# Altium integrated library Resistors.IntLib: 4954 symbols (part 17 of 32)
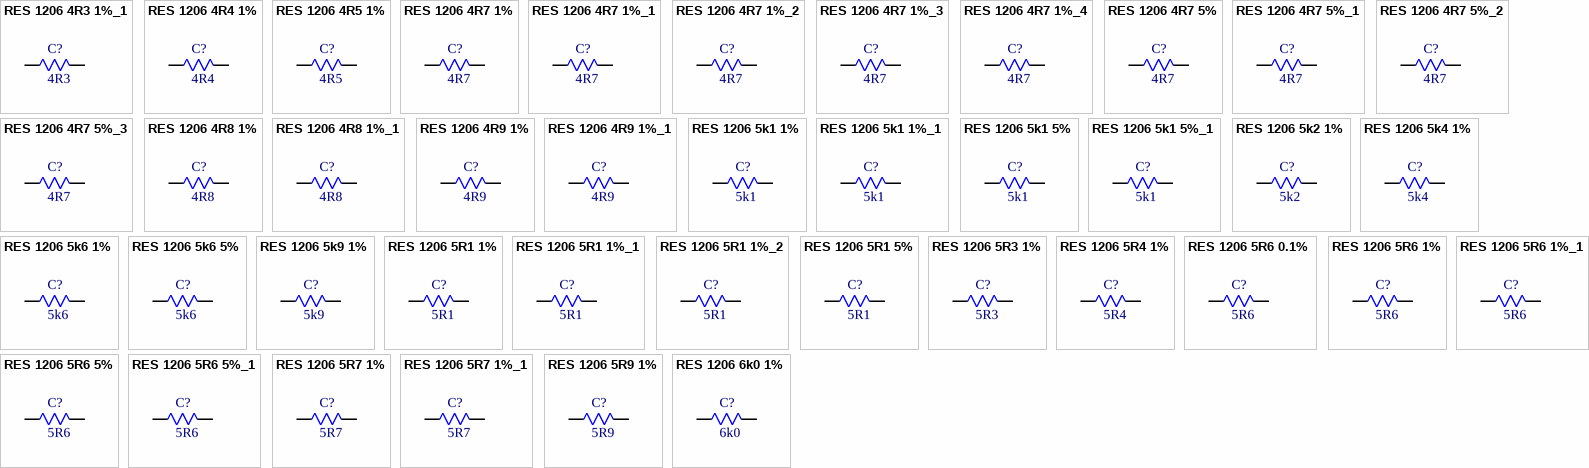
[diagram p139: symbols RES 1206 4R3 1%_1 to RES 1206 6k0 1%]

## RES 1206 5R9 1%
designator C?, comment 5R9
5.9R 1% 250mW 1206 Thick Film Resistor; Manufacturer: FOJAN; Manufacturer Part Number: FRC1206F5R90TS; Voltage Rating: 200V; Supplier: LCSC; Supplier Part Number: C2933737; Resistance: 5R9; Tolerance: 1%; Power: 250mW
footprint RES SMD 1206
pins: 1, 2

## RES 1206 6k0 1%
designator C?, comment 6k0
6.04kR 1% 250mW 1206 Thick Film Resistor; Manufacturer: FOJAN; Manufacturer Part Number: FRC1206F6041TS; Voltage Rating: 200V; Supplier: LCSC; Supplier Part Number: C3000586; Resistance: 6k0; Tolerance: 1%; Power: 250mW
footprint RES SMD 1206
pins: 1, 2

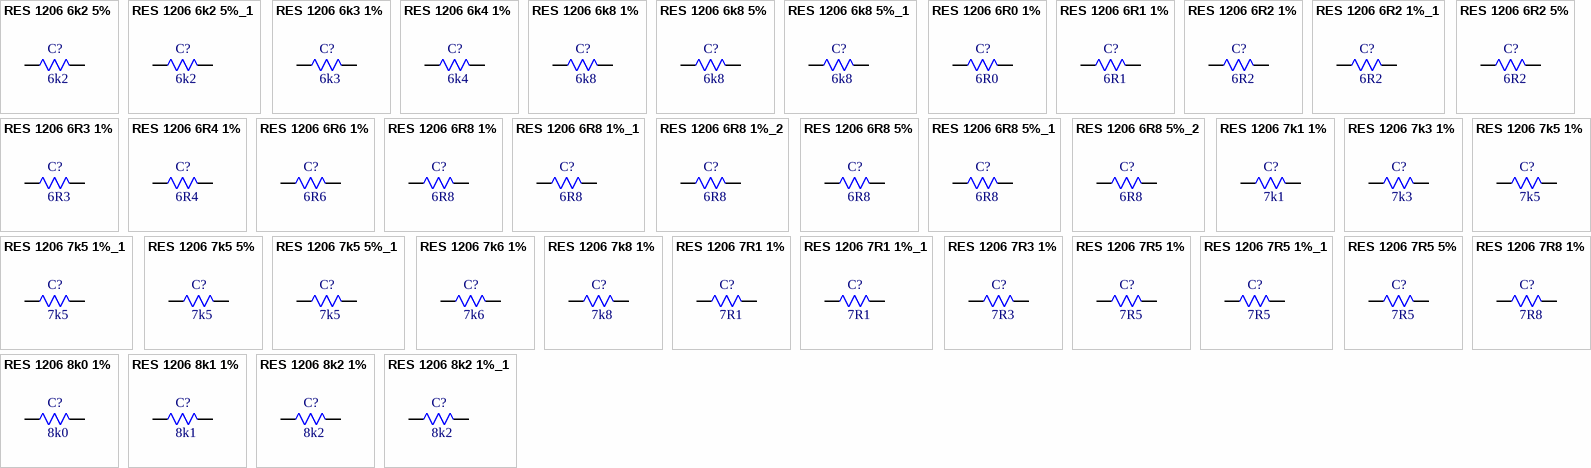
[diagram p64: symbols RES 1206 6k2 5% to RES 1206 8k2 1%_1]

## RES 1206 6k2 5%
designator C?, comment 6k2
250mW 6.2kR 200V Thick Film Resistor 5% 100ppm/â„ƒ 1206 Chip Resistor - Surface Mount RoHS; Manufacturer: FOJAN; Manufacturer Part Number: FRQ1206J622 TS; Supplier: LCSC; Supplier Part Number: C7468660; Resistance: 6k2; Tolerance: 5%; Voltage Rating: 200V; Power: 250mW
footprint RES SMD 1206
pins: 1, 2

## RES 1206 6k2 5%_1
designator C?, comment 6k2
6.2kR 5% 250mW 1206 Thick Film Resistor; Manufacturer: FOJAN; Manufacturer Part Number: FRC1206J622TS; Voltage Rating: 200V; Supplier: LCSC; Supplier Part Number: C2930380; Resistance: 6k2; Tolerance: 5%; Power: 250mW
footprint RES SMD 1206
pins: 1, 2

## RES 1206 6k3 1%
designator C?, comment 6k3
6.34kR 1% 250mW 1206 Thick Film Resistor; Manufacturer: FOJAN; Manufacturer Part Number: FRC1206F6341TS; Voltage Rating: 200V; Supplier: LCSC; Supplier Part Number: C3000749; Resistance: 6k3; Tolerance: 1%; Power: 250mW
footprint RES SMD 1206
pins: 1, 2

## RES 1206 6k4 1%
designator C?, comment 6k4
250mW 6.49kR 200V Thick Film Resistor 100ppm/â„ƒ 1% 1206 Chip Resistor - Surface Mount RoHS; Manufacturer: FOJAN; Manufacturer Part Number: FRC1206F6491TS; Supplier: LCSC; Supplier Part Number: C18164300; Resistance: 6k4; Tolerance: 1%; Voltage Rating: 200V; Power: 250mW
footprint RES SMD 1206
pins: 1, 2

## RES 1206 6k8 1%
designator C?, comment 6k8
6.8kR 1% 250mW 1206 Thick Film Resistor; Manufacturer: FOJAN; Manufacturer Part Number: FRC1206F6801TS; Voltage Rating: 200V; Supplier: LCSC; Supplier Part Number: C2933747; Resistance: 6k8; Tolerance: 1%; Power: 250mW
footprint RES SMD 1206
pins: 1, 2

## RES 1206 6k8 5%
designator C?, comment 6k8
6.8kR 5% 250mW 1206 Thick Film Resistor; Manufacturer: FOJAN; Manufacturer Part Number: FRC1206J682 TS; Voltage Rating: 200V; Supplier: LCSC; Supplier Part Number: C2907522; Resistance: 6k8; Tolerance: 5%; Power: 250mW
footprint RES SMD 1206
pins: 1, 2

## RES 1206 6k8 5%_1
designator C?, comment 6k8
6.8kR 250mW 200V Thick Film Resistor 5% 1206 Chip Resistor - Surface Mount RoHS; Manufacturer: FOJAN; Manufacturer Part Number: FRQ1206J682 TS; Supplier: LCSC; Supplier Part Number: C51048325; Resistance: 6k8; Tolerance: 5%; Voltage Rating: 200V; Power: 250mW
footprint RES SMD 1206
pins: 1, 2

## RES 1206 6R0 1%
designator C?, comment 6R0
6.04R 1% 250mW 1206 Thick Film Resistor; Manufacturer: FOJAN; Manufacturer Part Number: FRC1206F6R04TS; Voltage Rating: 200V; Supplier: LCSC; Supplier Part Number: C5713329; Resistance: 6R0; Tolerance: 1%; Power: 250mW
footprint RES SMD 1206
pins: 1, 2

## RES 1206 6R1 1%
designator C?, comment 6R1
6.19MR 1% 250mW 1206 Thick Film Resistor; Manufacturer: FOJAN; Manufacturer Part Number: FRC1206F6194TS; Voltage Rating: 200V; Supplier: LCSC; Supplier Part Number: C5204023; Resistance: 6R1; Tolerance: 1%; Power: 250mW
footprint RES SMD 1206
pins: 1, 2

## RES 1206 6R2 1%
designator C?, comment 6R2
6.2R 1% 250mW 1206 Thick Film Resistor; Manufacturer: FOJAN; Manufacturer Part Number: FRC1206F6R20TS; Voltage Rating: 200V; Supplier: LCSC; Supplier Part Number: C2933750; Resistance: 6R2; Tolerance: 1%; Power: 250mW
footprint RES SMD 1206
pins: 1, 2

## RES 1206 6R2 1%_1
designator C?, comment 6R2
6.2MR 1% 250mW 1206 Thick Film Resistor; Manufacturer: FOJAN; Manufacturer Part Number: FRC1206F6204TS; Voltage Rating: 200V; Supplier: LCSC; Supplier Part Number: C3013261; Resistance: 6R2; Tolerance: 1%; Power: 250mW
footprint RES SMD 1206
pins: 1, 2

## RES 1206 6R2 5%
designator C?, comment 6R2
6.2MR 5% 250mW 1206 Thick Film Resistor; Manufacturer: FOJAN; Manufacturer Part Number: FRC1206J625 TS; Voltage Rating: 200V; Supplier: LCSC; Supplier Part Number: C2933792; Resistance: 6R2; Tolerance: 5%; Power: 250mW
footprint RES SMD 1206
pins: 1, 2

## RES 1206 6R3 1%
designator C?, comment 6R3
250mW 6.34R 200V Thick Film Resistor 200ppm/â„ƒ 1% 1206 Chip Resistor - Surface Mount RoHS; Manufacturer: FOJAN; Manufacturer Part Number: FRC1206F6R34TS; Supplier: LCSC; Supplier Part Number: C49010115; Resistance: 6R3; Tolerance: 1%; Voltage Rating: 200V; Power: 250mW
footprint RES SMD 1206
pins: 1, 2

## RES 1206 6R4 1%
designator C?, comment 6R4
6.49R 1% 250mW 1206 Thick Film Resistor; Manufacturer: FOJAN; Manufacturer Part Number: FRC1206F6R49TS; Voltage Rating: 200V; Supplier: LCSC; Supplier Part Number: C2960708; Resistance: 6R4; Tolerance: 1%; Power: 250mW
footprint RES SMD 1206
pins: 1, 2

## RES 1206 6R6 1%
designator C?, comment 6R6
6.65R 250mW 200V Thick Film Resistor 200ppm/â„ƒ 1% 1206 Chip Resistor - Surface Mount RoHS; Manufacturer: FOJAN; Manufacturer Part Number: FRC1206F6R65TS; Supplier: LCSC; Supplier Part Number: C7467454; Resistance: 6R6; Tolerance: 1%; Voltage Rating: 200V; Power: 250mW
footprint RES SMD 1206
pins: 1, 2

## RES 1206 6R8 1%
designator C?, comment 6R8
6.8R 1% 250mW 1206 Thick Film Resistor; Manufacturer: FOJAN; Manufacturer Part Number: FRC1206F6R80TS; Voltage Rating: 200V; Supplier: LCSC; Supplier Part Number: C2907391; Resistance: 6R8; Tolerance: 1%; Power: 250mW
footprint RES SMD 1206
pins: 1, 2

## RES 1206 6R8 1%_1
designator C?, comment 6R8
500mW 6.8R 200V Thick Film Resistor 1% 200ppm/â„ƒ 1206 Chip Resistor - Surface Mount RoHS; Manufacturer: FOJAN; Manufacturer Part Number: FRP1206F6R80TS; Supplier: LCSC; Supplier Part Number: C48533792; Resistance: 6R8; Tolerance: 1%; Voltage Rating: 200V; Power: 500mW
footprint RES SMD 1206
pins: 1, 2

## RES 1206 6R8 1%_2
designator C?, comment 6R8
6.8MR 1% 250mW 1206 Thick Film Resistor; Manufacturer: FOJAN; Manufacturer Part Number: FRC1206F6804TS; Voltage Rating: 200V; Supplier: LCSC; Supplier Part Number: C3000532; Resistance: 6R8; Tolerance: 1%; Power: 250mW
footprint RES SMD 1206
pins: 1, 2

## RES 1206 6R8 5%
designator C?, comment 6R8
6.8R 5% 250mW 1206 Thick Film Resistor; Manufacturer: FOJAN; Manufacturer Part Number: FRC1206J6R8 TS; Voltage Rating: 200V; Supplier: LCSC; Supplier Part Number: C2907523; Resistance: 6R8; Tolerance: 5%; Power: 250mW
footprint RES SMD 1206
pins: 1, 2

## RES 1206 6R8 5%_1
designator C?, comment 6R8
250mW 6.8R 200V Thick Film Resistor 5% 200ppm/â„ƒ 1206 Chip Resistor - Surface Mount RoHS; Manufacturer: FOJAN; Manufacturer Part Number: FRR1206J6R8 TS; Supplier: LCSC; Supplier Part Number: C49196855; Resistance: 6R8; Tolerance: 5%; Voltage Rating: 200V; Power: 250mW
footprint RES SMD 1206
pins: 1, 2

## RES 1206 6R8 5%_2
designator C?, comment 6R8
6.8MR 5% 250mW 1206 Thick Film Resistor; Manufacturer: FOJAN; Manufacturer Part Number: FRC1206J685 TS; Voltage Rating: 200V; Supplier: LCSC; Supplier Part Number: C2933794; Resistance: 6R8; Tolerance: 5%; Power: 250mW
footprint RES SMD 1206
pins: 1, 2

## RES 1206 7k1 1%
designator C?, comment 7k1
7.15kR 1% 250mW 1206 Thick Film Resistor; Manufacturer: FOJAN; Manufacturer Part Number: FRC1206F7151TS; Voltage Rating: 200V; Supplier: LCSC; Supplier Part Number: C2933751; Resistance: 7k1; Tolerance: 1%; Power: 250mW
footprint RES SMD 1206
pins: 1, 2

## RES 1206 7k3 1%
designator C?, comment 7k3
7.32kR 1% 250mW 1206 Thick Film Resistor; Manufacturer: FOJAN; Manufacturer Part Number: FRC1206F7321TS; Voltage Rating: 200V; Supplier: LCSC; Supplier Part Number: C3000643; Resistance: 7k3; Tolerance: 1%; Power: 250mW
footprint RES SMD 1206
pins: 1, 2

## RES 1206 7k5 1%
designator C?, comment 7k5
7.5kR 1% 250mW 1206 Thick Film Resistor; Manufacturer: FOJAN; Manufacturer Part Number: FRC1206F7501TS; Voltage Rating: 200V; Supplier: LCSC; Supplier Part Number: C2907392; Resistance: 7k5; Tolerance: 1%; Power: 250mW
footprint RES SMD 1206
pins: 1, 2

## RES 1206 7k5 1%_1
designator C?, comment 7k5
7.5kR 1% 250mW 1206 Thick Film Resistor; Manufacturer: FOJAN; Manufacturer Part Number: FRQ1206F7501TS; Voltage Rating: 200V; Supplier: LCSC; Supplier Part Number: C42372220; Resistance: 7k5; Tolerance: 1%; Power: 250mW
footprint RES SMD 1206
pins: 1, 2

## RES 1206 7k5 5%
designator C?, comment 7k5
7.5kR 5% 250mW 1206 Thick Film Resistor; Manufacturer: FOJAN; Manufacturer Part Number: FRC1206J752 TS; Voltage Rating: 200V; Supplier: LCSC; Supplier Part Number: C2907531; Resistance: 7k5; Tolerance: 5%; Power: 250mW
footprint RES SMD 1206
pins: 1, 2

## RES 1206 7k5 5%_1
designator C?, comment 7k5
7.5kR 5% 250mW 1206 Thick Film Resistor AEC-Q200; Manufacturer: FOJAN; Manufacturer Part Number: FRQ1206J752 TS; Voltage Rating: 200V; Supplier: LCSC; Supplier Part Number: C5713473; Resistance: 7k5; Tolerance: 5%; Power: 250mW
footprint RES SMD 1206
pins: 1, 2

## RES 1206 7k6 1%
designator C?, comment 7k6
7.68kR 1% 250mW 1206 Thick Film Resistor; Manufacturer: FOJAN; Manufacturer Part Number: FRC1206F7681TS; Voltage Rating: 200V; Supplier: LCSC; Supplier Part Number: C3000751; Resistance: 7k6; Tolerance: 1%; Power: 250mW
footprint RES SMD 1206
pins: 1, 2

## RES 1206 7k8 1%
designator C?, comment 7k8
7.87kR 1% 250mW 1206 Thick Film Resistor; Manufacturer: FOJAN; Manufacturer Part Number: FRC1206F7871TS; Voltage Rating: 200V; Supplier: LCSC; Supplier Part Number: C2999557; Resistance: 7k8; Tolerance: 1%; Power: 250mW
footprint RES SMD 1206
pins: 1, 2

## RES 1206 7R1 1%
designator C?, comment 7R1
7.15R 1% 250mW 1206 Thick Film Resistor; Manufacturer: FOJAN; Manufacturer Part Number: FRC1206F7R15TS; Voltage Rating: 200V; Supplier: LCSC; Supplier Part Number: C2933755; Resistance: 7R1; Tolerance: 1%; Power: 250mW
footprint RES SMD 1206
pins: 1, 2

## RES 1206 7R1 1%_1
designator C?, comment 7R1
7.15MR 1% 250mW 1206 Thick Film Resistor; Manufacturer: FOJAN; Manufacturer Part Number: FRC1206F7154TS; Voltage Rating: 200V; Supplier: LCSC; Supplier Part Number: C5159737; Resistance: 7R1; Tolerance: 1%; Power: 250mW
footprint RES SMD 1206
pins: 1, 2

## RES 1206 7R3 1%
designator C?, comment 7R3
7.32R 1% 250mW 1206 Thick Film Resistor; Manufacturer: FOJAN; Manufacturer Part Number: FRC1206F7R32TS; Voltage Rating: 200V; Supplier: LCSC; Supplier Part Number: C3000588; Resistance: 7R3; Tolerance: 1%; Power: 250mW
footprint RES SMD 1206
pins: 1, 2

## RES 1206 7R5 1%
designator C?, comment 7R5
7.5R 1% 250mW 1206 Thick Film Resistor; Manufacturer: FOJAN; Manufacturer Part Number: FRC1206F7R50TS; Voltage Rating: 200V; Supplier: LCSC; Supplier Part Number: C2933756; Resistance: 7R5; Tolerance: 1%; Power: 250mW
footprint RES SMD 1206
pins: 1, 2

## RES 1206 7R5 1%_1
designator C?, comment 7R5
250mW 7.5R 200V Thick Film Resistor 1% 1206 Chip Resistor - Surface Mount RoHS; Manufacturer: FOJAN; Manufacturer Part Number: FRQ1206F7R50TS; Supplier: LCSC; Supplier Part Number: C51048248; Resistance: 7R5; Tolerance: 1%; Voltage Rating: 200V; Power: 250mW
footprint RES SMD 1206
pins: 1, 2

## RES 1206 7R5 5%
designator C?, comment 7R5
7.5R 5% 250mW 1206 Thick Film Resistor; Manufacturer: FOJAN; Manufacturer Part Number: FRC1206J7R5 TS; Voltage Rating: 200V; Supplier: LCSC; Supplier Part Number: C2907532; Resistance: 7R5; Tolerance: 5%; Power: 250mW
footprint RES SMD 1206
pins: 1, 2

## RES 1206 7R8 1%
designator C?, comment 7R8
7.87R 1% 250mW 1206 Thick Film Resistor; Manufacturer: FOJAN; Manufacturer Part Number: FRC1206F7R87TS; Voltage Rating: 200V; Supplier: LCSC; Supplier Part Number: C3013263; Resistance: 7R8; Tolerance: 1%; Power: 250mW
footprint RES SMD 1206
pins: 1, 2

## RES 1206 8k0 1%
designator C?, comment 8k0
8.06kR 250mW 200V Thick Film Resistor 100ppm/â„ƒ 1% 1206 Chip Resistor - Surface Mount RoHS; Manufacturer: FOJAN; Manufacturer Part Number: FRC1206F8061TS; Supplier: LCSC; Supplier Part Number: C18164301; Resistance: 8k0; Tolerance: 1%; Voltage Rating: 200V; Power: 250mW
footprint RES SMD 1206
pins: 1, 2

## RES 1206 8k1 1%
designator C?, comment 8k1
250mW 8.1kR 200V Thick Film Resistor 100ppm/â„ƒ 1% 1206 Chip Resistor - Surface Mount RoHS; Manufacturer: FOJAN; Manufacturer Part Number: FRC1206F8101TS; Supplier: LCSC; Supplier Part Number: C22375113; Resistance: 8k1; Tolerance: 1%; Voltage Rating: 200V; Power: 250mW
footprint RES SMD 1206
pins: 1, 2

## RES 1206 8k2 1%
designator C?, comment 8k2
8.2kR 1% 250mW 1206 Thick Film Resistor; Manufacturer: FOJAN; Manufacturer Part Number: FRC1206F8201TS; Voltage Rating: 200V; Supplier: LCSC; Supplier Part Number: C2933760; Resistance: 8k2; Tolerance: 1%; Power: 250mW
footprint RES SMD 1206
pins: 1, 2

## RES 1206 8k2 1%_1
designator C?, comment 8k2
8.25kR 1% 250mW 1206 Thick Film Resistor; Manufacturer: FOJAN; Manufacturer Part Number: FRC1206F8251TS; Voltage Rating: 200V; Supplier: LCSC; Supplier Part Number: C5713331; Resistance: 8k2; Tolerance: 1%; Power: 250mW
footprint RES SMD 1206
pins: 1, 2

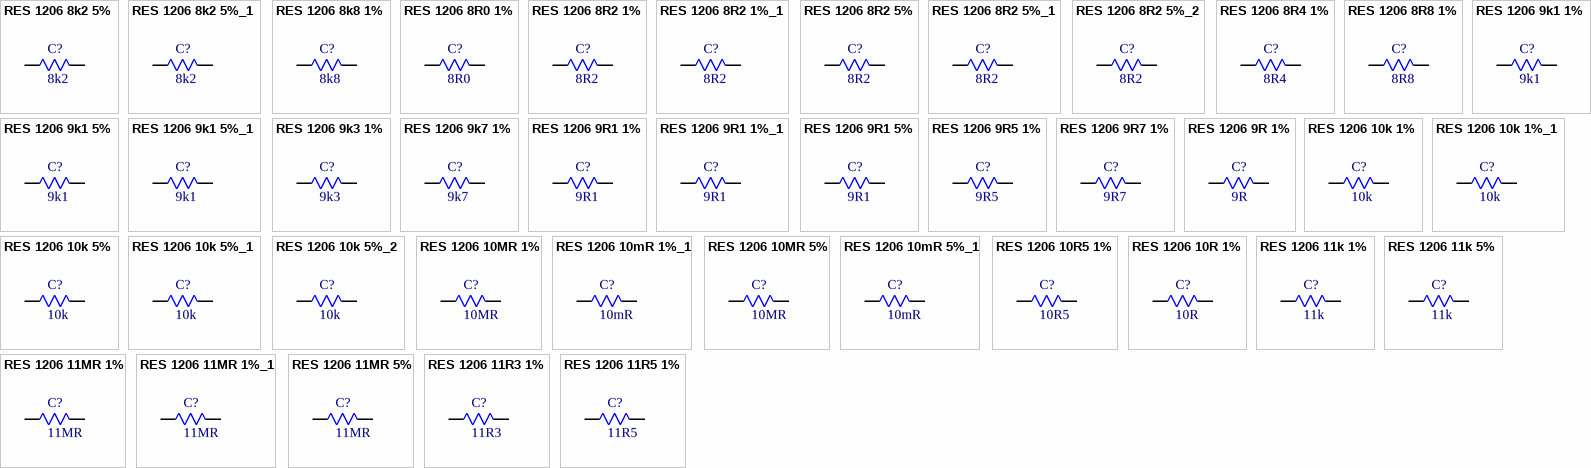
[diagram p65: symbols RES 1206 8k2 5% to RES 1206 11R5 1%]

## RES 1206 8k2 5%
designator C?, comment 8k2
8.2kR 5% 250mW 1206 Thick Film Resistor; Manufacturer: FOJAN; Manufacturer Part Number: FRC1206J822 TS; Voltage Rating: 200V; Supplier: LCSC; Supplier Part Number: C2907536; Resistance: 8k2; Tolerance: 5%; Power: 250mW
footprint RES SMD 1206
pins: 1, 2

## RES 1206 8k2 5%_1
designator C?, comment 8k2
250mW 8.2kR 200V Thick Film Resistor 5% 100ppm/â„ƒ 1206 Chip Resistor - Surface Mount RoHS; Manufacturer: FOJAN; Manufacturer Part Number: FRQ1206J822 TS; Supplier: LCSC; Supplier Part Number: C7468526; Resistance: 8k2; Tolerance: 5%; Voltage Rating: 200V; Power: 250mW
footprint RES SMD 1206
pins: 1, 2

## RES 1206 8k8 1%
designator C?, comment 8k8
8.87kR 1% 250mW 1206 Thick Film Resistor; Manufacturer: FOJAN; Manufacturer Part Number: FRC1206F8871TS; Voltage Rating: 200V; Supplier: LCSC; Supplier Part Number: C3000752; Resistance: 8k8; Tolerance: 1%; Power: 250mW
footprint RES SMD 1206
pins: 1, 2

## RES 1206 8R0 1%
designator C?, comment 8R0
8.06R 1% 250mW 1206 Thick Film Resistor; Manufacturer: FOJAN; Manufacturer Part Number: FRC1206F8R06TS; Voltage Rating: 200V; Supplier: LCSC; Supplier Part Number: C2960929; Resistance: 8R0; Tolerance: 1%; Power: 250mW
footprint RES SMD 1206
pins: 1, 2

## RES 1206 8R2 1%
designator C?, comment 8R2
8.2R 1% 250mW 1206 Thick Film Resistor; Manufacturer: FOJAN; Manufacturer Part Number: FRC1206F8R20TS; Voltage Rating: 200V; Supplier: LCSC; Supplier Part Number: C2933764; Resistance: 8R2; Tolerance: 1%; Power: 250mW
footprint RES SMD 1206
pins: 1, 2

## RES 1206 8R2 1%_1
designator C?, comment 8R2
250mW 8.25R 200V Thick Film Resistor 200ppm/â„ƒ 1% 1206 Chip Resistor - Surface Mount RoHS; Manufacturer: FOJAN; Manufacturer Part Number: FRC1206F8R25TS; Supplier: LCSC; Supplier Part Number: C7467435; Resistance: 8R2; Tolerance: 1%; Voltage Rating: 200V; Power: 250mW
footprint RES SMD 1206
pins: 1, 2

## RES 1206 8R2 5%
designator C?, comment 8R2
8.2MR 5% 250mW 1206 Thick Film Resistor; Manufacturer: FOJAN; Manufacturer Part Number: FRC1206J825 TS; Voltage Rating: 200V; Supplier: LCSC; Supplier Part Number: C2960809; Resistance: 8R2; Tolerance: 5%; Power: 250mW
footprint RES SMD 1206
pins: 1, 2

## RES 1206 8R2 5%_1
designator C?, comment 8R2
250mW 8.2R 200V Thick Film Resistor 5% 1206 Chip Resistor - Surface Mount RoHS; Manufacturer: FOJAN; Manufacturer Part Number: FRQ1206J8R2 TS; Supplier: LCSC; Supplier Part Number: C52033537; Resistance: 8R2; Tolerance: 5%; Voltage Rating: 200V; Power: 250mW
footprint RES SMD 1206
pins: 1, 2

## RES 1206 8R2 5%_2
designator C?, comment 8R2
8.2R 5% 250mW 1206 Thick Film Resistor; Manufacturer: FOJAN; Manufacturer Part Number: FRC1206J8R2 TS; Voltage Rating: 200V; Supplier: LCSC; Supplier Part Number: C2907537; Resistance: 8R2; Tolerance: 5%; Power: 250mW
footprint RES SMD 1206
pins: 1, 2

## RES 1206 8R4 1%
designator C?, comment 8R4
8.45R 1% 250mW 1206 Thick Film Resistor; Manufacturer: FOJAN; Manufacturer Part Number: FRC1206F8R45TS; Voltage Rating: 200V; Supplier: LCSC; Supplier Part Number: C3013264; Resistance: 8R4; Tolerance: 1%; Power: 250mW
footprint RES SMD 1206
pins: 1, 2

## RES 1206 8R8 1%
designator C?, comment 8R8
8.87R 1% 250mW 1206 Thick Film Resistor; Manufacturer: FOJAN; Manufacturer Part Number: FRC1206F8R87TS; Voltage Rating: 200V; Supplier: LCSC; Supplier Part Number: C2960828; Resistance: 8R8; Tolerance: 1%; Power: 250mW
footprint RES SMD 1206
pins: 1, 2

## RES 1206 9k1 1%
designator C?, comment 9k1
9.1kR 1% 250mW 1206 Thick Film Resistor; Manufacturer: FOJAN; Manufacturer Part Number: FRC1206F9101TS; Voltage Rating: 200V; Supplier: LCSC; Supplier Part Number: C2933766; Resistance: 9k1; Tolerance: 1%; Power: 250mW
footprint RES SMD 1206
pins: 1, 2

## RES 1206 9k1 5%
designator C?, comment 9k1
9.1kR 5% 250mW 1206 Thick Film Resistor; Manufacturer: FOJAN; Manufacturer Part Number: FRC1206J912TS; Voltage Rating: 200V; Supplier: LCSC; Supplier Part Number: C2930388; Resistance: 9k1; Tolerance: 5%; Power: 250mW
footprint RES SMD 1206
pins: 1, 2

## RES 1206 9k1 5%_1
designator C?, comment 9k1
250mW 9.1kR 200V Thick Film Resistor 100ppm/â„ƒ 5% 1206 Chip Resistor - Surface Mount RoHS; Manufacturer: FOJAN; Manufacturer Part Number: FRQ1206J912 TS; Supplier: LCSC; Supplier Part Number: C49010123; Resistance: 9k1; Tolerance: 5%; Voltage Rating: 200V; Power: 250mW
footprint RES SMD 1206
pins: 1, 2

## RES 1206 9k3 1%
designator C?, comment 9k3
9.31kR 1% 250mW 1206 Thick Film Resistor; Manufacturer: FOJAN; Manufacturer Part Number: FRC1206F9311TS; Voltage Rating: 200V; Supplier: LCSC; Supplier Part Number: C3000536; Resistance: 9k3; Tolerance: 1%; Power: 250mW
footprint RES SMD 1206
pins: 1, 2

## RES 1206 9k7 1%
designator C?, comment 9k7
9.76kR 1% 250mW 1206 Thick Film Resistor; Manufacturer: FOJAN; Manufacturer Part Number: FRC1206F9761TS; Voltage Rating: 200V; Supplier: LCSC; Supplier Part Number: C3013265; Resistance: 9k7; Tolerance: 1%; Power: 250mW
footprint RES SMD 1206
pins: 1, 2

## RES 1206 9R1 1%
designator C?, comment 9R1
9.1R 1% 250mW 1206 Thick Film Resistor; Manufacturer: FOJAN; Manufacturer Part Number: FRC1206F9R10TS; Voltage Rating: 200V; Supplier: LCSC; Supplier Part Number: C2933771; Resistance: 9R1; Tolerance: 1%; Power: 250mW
footprint RES SMD 1206
pins: 1, 2

## RES 1206 9R1 1%_1
designator C?, comment 9R1
9.1MR 1% 250mW 1206 Thick Film Resistor; Manufacturer: FOJAN; Manufacturer Part Number: FRC1206F9104TS; Voltage Rating: 200V; Supplier: LCSC; Supplier Part Number: C2930400; Resistance: 9R1; Tolerance: 1%; Power: 250mW
footprint RES SMD 1206
pins: 1, 2

## RES 1206 9R1 5%
designator C?, comment 9R1
9.1MR 5% 250mW 1206 Thick Film Resistor; Manufacturer: FOJAN; Manufacturer Part Number: FRC1206J915 TS; Voltage Rating: 200V; Supplier: LCSC; Supplier Part Number: C2933798; Resistance: 9R1; Tolerance: 5%; Power: 250mW
footprint RES SMD 1206
pins: 1, 2

## RES 1206 9R5 1%
designator C?, comment 9R5
9.53R 1% 250mW 1206 Thick Film Resistor; Manufacturer: FOJAN; Manufacturer Part Number: FRC1206F9R53TS; Voltage Rating: 200V; Supplier: LCSC; Supplier Part Number: C2933772; Resistance: 9R5; Tolerance: 1%; Power: 250mW
footprint RES SMD 1206
pins: 1, 2

## RES 1206 9R7 1%
designator C?, comment 9R7
9.76R 1% 250mW 1206 Thick Film Resistor; Manufacturer: FOJAN; Manufacturer Part Number: FRC1206F9R76TS; Voltage Rating: 200V; Supplier: LCSC; Supplier Part Number: C5713333; Resistance: 9R7; Tolerance: 1%; Power: 250mW
footprint RES SMD 1206
pins: 1, 2

## RES 1206 9R 1%
designator C?, comment 9R
9R 500mW 200V Thick Film Resistor 1% 1206 Chip Resistor - Surface Mount RoHS; Manufacturer: FOJAN; Manufacturer Part Number: FRP1206F9R10TS; Supplier: LCSC; Supplier Part Number: C52033552; Resistance: 9R; Tolerance: 1%; Voltage Rating: 200V; Power: 500mW
footprint RES SMD 1206
pins: 1, 2

## RES 1206 10k 1%
designator C?, comment 10k
10kR 1% 250mW 1206 Thick Film Resistor; Manufacturer: FOJAN; Manufacturer Part Number: FRC1206F1002TS; Voltage Rating: 200V; Supplier: LCSC; Supplier Part Number: C2907370; Resistance: 10k; Tolerance: 1%; Power: 250mW
footprint RES SMD 1206
pins: 1, 2

## RES 1206 10k 1%_1
designator C?, comment 10k
10kR 1% 250mW 1206 Thick Film Resistor AEC-Q200; Manufacturer: FOJAN; Manufacturer Part Number: FRQ1206F1002TS; Voltage Rating: 200V; Supplier: LCSC; Supplier Part Number: C5713456; Resistance: 10k; Tolerance: 1%; Power: 250mW
footprint RES SMD 1206
pins: 1, 2

## RES 1206 10k 5%
designator C?, comment 10k
10kR 5% 250mW 1206 Thick Film Resistor; Manufacturer: FOJAN; Manufacturer Part Number: FRC1206J103 TS; Voltage Rating: 200V; Supplier: LCSC; Supplier Part Number: C2907423; Resistance: 10k; Tolerance: 5%; Power: 250mW
footprint RES SMD 1206
pins: 1, 2

## RES 1206 10k 5%_1
designator C?, comment 10k
10kR 5% 500mW 1206 Thick Film Resistor; Manufacturer: FOJAN; Manufacturer Part Number: FRP1206J103 TS; Voltage Rating: 200V; Supplier: LCSC; Supplier Part Number: C3013377; Resistance: 10k; Tolerance: 5%; Power: 500mW
footprint RES SMD 1206
pins: 1, 2

## RES 1206 10k 5%_2
designator C?, comment 10k
10kR 250mW 200V Thick Film Resistor 100ppm/â„ƒ 5% 1206 Chip Resistor - Surface Mount RoHS; Manufacturer: FOJAN; Manufacturer Part Number: FRR1206J103 TS; Supplier: LCSC; Supplier Part Number: C49196844; Resistance: 10k; Tolerance: 5%; Voltage Rating: 200V; Power: 250mW
footprint RES SMD 1206
pins: 1, 2

## RES 1206 10MR 1%
designator C?, comment 10MR
10MR 1% 250mW 1206 Thick Film Resistor; Manufacturer: FOJAN; Manufacturer Part Number: FRC1206F1005TS; Voltage Rating: 200V; Supplier: LCSC; Supplier Part Number: C2933576; Resistance: 10MR; Tolerance: 1%; Power: 250mW
footprint RES SMD 1206
pins: 1, 2

## RES 1206 10mR 1%_1
designator C?, comment 10mR
250mW 10mR Thick Film Resistor 1% 1206 Chip Resistor - Surface Mount RoHS; Manufacturer: FOJAN; Manufacturer Part Number: FRL1206FR010TS; Supplier: LCSC; Supplier Part Number: C7467672; Resistance: 10mR; Tolerance: 1%; Power: 250mW
footprint RES SMD 1206
pins: 1, 2

## RES 1206 10MR 5%
designator C?, comment 10MR
10MR 5% 250mW 1206 Thick Film Resistor; Manufacturer: FOJAN; Manufacturer Part Number: FRC1206J106 TS; Voltage Rating: 200V; Supplier: LCSC; Supplier Part Number: C2933773; Resistance: 10MR; Tolerance: 5%; Power: 250mW
footprint RES SMD 1206
pins: 1, 2

## RES 1206 10mR 5%_1
designator C?, comment 10mR
250mW 10mR Thick Film Resistor 5% 1206 Chip Resistor - Surface Mount RoHS; Manufacturer: FOJAN; Manufacturer Part Number: FRL1206JR010TS; Supplier: LCSC; Supplier Part Number: C7467575; Resistance: 10mR; Tolerance: 5%; Power: 250mW
footprint RES SMD 1206
pins: 1, 2

## RES 1206 10R5 1%
designator C?, comment 10R5
10.5R 1% 250mW 1206 Thick Film Resistor; Manufacturer: FOJAN; Manufacturer Part Number: FRC1206F10R5TS; Voltage Rating: 200V; Supplier: LCSC; Supplier Part Number: C2933578; Resistance: 10R5; Tolerance: 1%; Power: 250mW
footprint RES SMD 1206
pins: 1, 2

## RES 1206 10R 1%
designator C?, comment 10R
10R 1% 250mW 1206 Thick Film Resistor; Manufacturer: FOJAN; Manufacturer Part Number: FRC1206F10R0TS; Voltage Rating: 200V; Supplier: LCSC; Supplier Part Number: C2907371; Resistance: 10R; Tolerance: 1%; Power: 250mW
footprint RES SMD 1206
pins: 1, 2

## RES 1206 11k 1%
designator C?, comment 11k
11kR 1% 250mW 1206 Thick Film Resistor; Manufacturer: FOJAN; Manufacturer Part Number: FRC1206F1102TS; Voltage Rating: 200V; Supplier: LCSC; Supplier Part Number: C2933581; Resistance: 11k; Tolerance: 1%; Power: 250mW
footprint RES SMD 1206
pins: 1, 2

## RES 1206 11k 5%
designator C?, comment 11k
11kR 5% 250mW 1206 Thick Film Resistor; Manufacturer: FOJAN; Manufacturer Part Number: FRC1206J113 TS; Voltage Rating: 200V; Supplier: LCSC; Supplier Part Number: C2933777; Resistance: 11k; Tolerance: 5%; Power: 250mW
footprint RES SMD 1206
pins: 1, 2

## RES 1206 11MR 1%
designator C?, comment 11MR
11MR 1% 250mW 1206 Thick Film Resistor; Manufacturer: FOJAN; Manufacturer Part Number: FRC1206F1105TS; Voltage Rating: 200V; Supplier: LCSC; Supplier Part Number: C3013239; Resistance: 11MR; Tolerance: 1%; Power: 250mW
footprint RES SMD 1206
pins: 1, 2

## RES 1206 11MR 1%_1
designator C?, comment 11MR
11MR 1% 250mW 1206 Thick Film Resistor; Manufacturer: FOJAN; Manufacturer Part Number: FRG1206F1105TS; Voltage Rating: 200V; Supplier: LCSC; Supplier Part Number: C3000524; Resistance: 11MR; Tolerance: 1%; Power: 250mW
footprint RES SMD 1206
pins: 1, 2

## RES 1206 11MR 5%
designator C?, comment 11MR
11MR 5% 250mW 1206 Thick Film Resistor; Manufacturer: FOJAN; Manufacturer Part Number: FRG1206J116TS; Voltage Rating: 200V; Supplier: LCSC; Supplier Part Number: C5154006; Resistance: 11MR; Tolerance: 5%; Power: 250mW
footprint RES SMD 1206
pins: 1, 2

## RES 1206 11R3 1%
designator C?, comment 11R3
11.3R 1% 250mW 1206 Thick Film Resistor; Manufacturer: FOJAN; Manufacturer Part Number: FRC1206F11R3TS; Voltage Rating: 200V; Supplier: LCSC; Supplier Part Number: C2933583; Resistance: 11R3; Tolerance: 1%; Power: 250mW
footprint RES SMD 1206
pins: 1, 2

## RES 1206 11R5 1%
designator C?, comment 11R5
11.5R 250mW 200V Thick Film Resistor 1% 100ppm/â„ƒ 1206 Chip Resistor - Surface Mount RoHS; Manufacturer: FOJAN; Manufacturer Part Number: FRC1206F11R5TS; Supplier: LCSC; Supplier Part Number: C7467445; Resistance: 11R5; Tolerance: 1%; Voltage Rating: 200V; Power: 250mW
footprint RES SMD 1206
pins: 1, 2

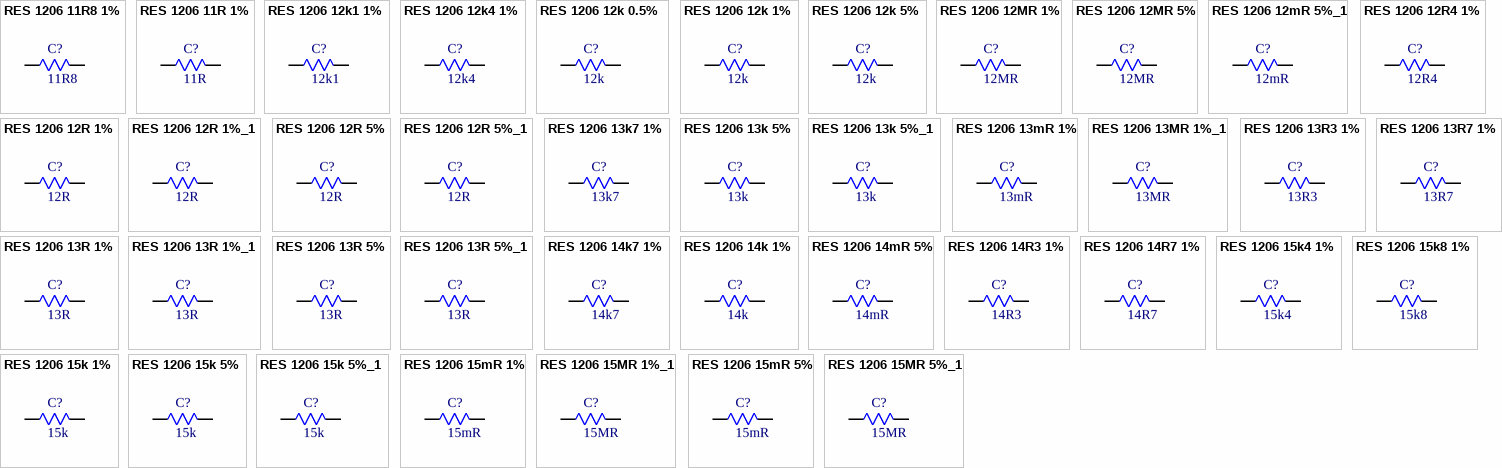
[diagram p66: symbols RES 1206 11R8 1% to RES 1206 15MR 5%_1]

## RES 1206 11R8 1%
designator C?, comment 11R8
11.8R 1% 250mW 1206 Thick Film Resistor; Manufacturer: FOJAN; Manufacturer Part Number: FRC1206F11R8TS; Voltage Rating: 200V; Supplier: LCSC; Supplier Part Number: C5713318; Resistance: 11R8; Tolerance: 1%; Power: 250mW
footprint RES SMD 1206
pins: 1, 2

## RES 1206 11R 1%
designator C?, comment 11R
11R 1% 250mW 1206 Thick Film Resistor; Manufacturer: FOJAN; Manufacturer Part Number: FRC1206F11R0TS; Voltage Rating: 200V; Supplier: LCSC; Supplier Part Number: C2930404; Resistance: 11R; Tolerance: 1%; Power: 250mW
footprint RES SMD 1206
pins: 1, 2

## RES 1206 12k1 1%
designator C?, comment 12k1
250mW 12.1kR 200V Thick Film Resistor 1% 100ppm/â„ƒ 1206 Chip Resistor - Surface Mount RoHS; Manufacturer: FOJAN; Manufacturer Part Number: FRC1206F1212TS; Supplier: LCSC; Supplier Part Number: C7467428; Resistance: 12k1; Tolerance: 1%; Voltage Rating: 200V; Power: 250mW
footprint RES SMD 1206
pins: 1, 2

## RES 1206 12k4 1%
designator C?, comment 12k4
250mW 12.4kR 200V Thick Film Resistor 1% 100ppm/â„ƒ 1206 Chip Resistor - Surface Mount RoHS; Manufacturer: FOJAN; Manufacturer Part Number: FRC1206F1242TS; Supplier: LCSC; Supplier Part Number: C7467403; Resistance: 12k4; Tolerance: 1%; Voltage Rating: 200V; Power: 250mW
footprint RES SMD 1206
pins: 1, 2

## RES 1206 12k 0.5%
designator C?, comment 12k
12kR 250mW 200V Thick Film Resistor 100ppm/â„ƒ 0.5% 1206 Chip Resistor - Surface Mount RoHS; Manufacturer: FOJAN; Manufacturer Part Number: FRH1206D1202TS; Supplier: LCSC; Supplier Part Number: C48533738; Resistance: 12k; Tolerance: 0.5%; Voltage Rating: 200V; Power: 250mW
footprint RES SMD 1206
pins: 1, 2

## RES 1206 12k 1%
designator C?, comment 12k
12kR 1% 250mW 1206 Thick Film Resistor; Manufacturer: FOJAN; Manufacturer Part Number: FRC1206F1202TS; Voltage Rating: 200V; Supplier: LCSC; Supplier Part Number: C2930406; Resistance: 12k; Tolerance: 1%; Power: 250mW
footprint RES SMD 1206
pins: 1, 2

## RES 1206 12k 5%
designator C?, comment 12k
12kR 5% 250mW 1206 Thick Film Resistor; Manufacturer: FOJAN; Manufacturer Part Number: FRC1206J123 TS; Voltage Rating: 200V; Supplier: LCSC; Supplier Part Number: C2907427; Resistance: 12k; Tolerance: 5%; Power: 250mW
footprint RES SMD 1206
pins: 1, 2

## RES 1206 12MR 1%
designator C?, comment 12MR
12MR 1% 250mW 1206 Thick Film Resistor; Manufacturer: FOJAN; Manufacturer Part Number: FRG1206F1205TS; Voltage Rating: 200V; Supplier: LCSC; Supplier Part Number: C5126174; Resistance: 12MR; Tolerance: 1%; Power: 250mW
footprint RES SMD 1206
pins: 1, 2

## RES 1206 12MR 5%
designator C?, comment 12MR
12MR 5% 250mW 1206 Thick Film Resistor; Manufacturer: FOJAN; Manufacturer Part Number: FRG1206J126TS; Voltage Rating: 200V; Supplier: LCSC; Supplier Part Number: C3000648; Resistance: 12MR; Tolerance: 5%; Power: 250mW
footprint RES SMD 1206
pins: 1, 2

## RES 1206 12mR 5%_1
designator C?, comment 12mR
250mW 12mR Thick Film Resistor 5% 1206 Chip Resistor - Surface Mount RoHS; Manufacturer: FOJAN; Manufacturer Part Number: FRL1206JR012TS; Supplier: LCSC; Supplier Part Number: C7467540; Resistance: 12mR; Tolerance: 5%; Power: 250mW
footprint RES SMD 1206
pins: 1, 2

## RES 1206 12R4 1%
designator C?, comment 12R4
12.4R 1% 250mW 1206 Thick Film Resistor; Manufacturer: FOJAN; Manufacturer Part Number: FRC1206F12R4TS; Voltage Rating: 200V; Supplier: LCSC; Supplier Part Number: C2930405; Resistance: 12R4; Tolerance: 1%; Power: 250mW
footprint RES SMD 1206
pins: 1, 2

## RES 1206 12R 1%
designator C?, comment 12R
12R 1% 250mW 1206 Thick Film Resistor; Manufacturer: FOJAN; Manufacturer Part Number: FRC1206F12R0TS; Voltage Rating: 200V; Supplier: LCSC; Supplier Part Number: C2930407; Resistance: 12R; Tolerance: 1%; Power: 250mW
footprint RES SMD 1206
pins: 1, 2

## RES 1206 12R 1%_1
designator C?, comment 12R
12R 250mW 200V Thick Film Resistor 100ppm/â„ƒ 1% 1206 Chip Resistor - Surface Mount RoHS; Manufacturer: FOJAN; Manufacturer Part Number: FRQ1206F12R0TS; Supplier: LCSC; Supplier Part Number: C18222262; Resistance: 12R; Tolerance: 1%; Voltage Rating: 200V; Power: 250mW
footprint RES SMD 1206
pins: 1, 2

## RES 1206 12R 5%
designator C?, comment 12R
12R 5% 250mW 1206 Thick Film Resistor; Manufacturer: FOJAN; Manufacturer Part Number: FRC1206J120 TS; Voltage Rating: 200V; Supplier: LCSC; Supplier Part Number: C2907428; Resistance: 12R; Tolerance: 5%; Power: 250mW
footprint RES SMD 1206
pins: 1, 2

## RES 1206 12R 5%_1
designator C?, comment 12R
12R 250mW 200V Thick Film Resistor 5% 1206 Chip Resistor - Surface Mount RoHS; Manufacturer: FOJAN; Manufacturer Part Number: FRQ1206J120 TS; Supplier: LCSC; Supplier Part Number: C52033545; Resistance: 12R; Tolerance: 5%; Voltage Rating: 200V; Power: 250mW
footprint RES SMD 1206
pins: 1, 2

## RES 1206 13k7 1%
designator C?, comment 13k7
13.7kR 1% 250mW 1206 Thick Film Resistor; Manufacturer: FOJAN; Manufacturer Part Number: FRC1206F1372TS; Voltage Rating: 200V; Supplier: LCSC; Supplier Part Number: C2933595; Resistance: 13k7; Tolerance: 1%; Power: 250mW
footprint RES SMD 1206
pins: 1, 2

## RES 1206 13k 5%
designator C?, comment 13k
13kR 5% 250mW 1206 Thick Film Resistor; Manufacturer: FOJAN; Manufacturer Part Number: FRC1206J133 TS; Voltage Rating: 200V; Supplier: LCSC; Supplier Part Number: C2907430; Resistance: 13k; Tolerance: 5%; Power: 250mW
footprint RES SMD 1206
pins: 1, 2

## RES 1206 13k 5%_1
designator C?, comment 13k
250mW 13kR 200V Thick Film Resistor 5% 100ppm/â„ƒ 1206 Chip Resistor - Surface Mount RoHS; Manufacturer: FOJAN; Manufacturer Part Number: FRQ1206J133 TS; Supplier: LCSC; Supplier Part Number: C7468424; Resistance: 13k; Tolerance: 5%; Voltage Rating: 200V; Power: 250mW
footprint RES SMD 1206
pins: 1, 2

## RES 1206 13mR 1%
designator C?, comment 13mR
250mW 13mR Thick Film Resistor 1% 1206 Chip Resistor - Surface Mount RoHS; Manufacturer: FOJAN; Manufacturer Part Number: FRL1206FR013TS; Supplier: LCSC; Supplier Part Number: C7467678; Resistance: 13mR; Tolerance: 1%; Power: 250mW
footprint RES SMD 1206
pins: 1, 2

## RES 1206 13MR 1%_1
designator C?, comment 13MR
13MR 1% 250mW 1206 Thick Film Resistor; Manufacturer: FOJAN; Manufacturer Part Number: FRG1206F1305TS; Voltage Rating: 200V; Supplier: LCSC; Supplier Part Number: C5126164; Resistance: 13MR; Tolerance: 1%; Power: 250mW
footprint RES SMD 1206
pins: 1, 2

## RES 1206 13R3 1%
designator C?, comment 13R3
13.3R 1% 250mW 1206 Thick Film Resistor; Manufacturer: FOJAN; Manufacturer Part Number: FRC1206F13R3TS; Voltage Rating: 200V; Supplier: LCSC; Supplier Part Number: C5159730; Resistance: 13R3; Tolerance: 1%; Power: 250mW
footprint RES SMD 1206
pins: 1, 2

## RES 1206 13R7 1%
designator C?, comment 13R7
13.7R 1% 250mW 1206 Thick Film Resistor; Manufacturer: FOJAN; Manufacturer Part Number: FRC1206F13R7TS; Voltage Rating: 200V; Supplier: LCSC; Supplier Part Number: C42372172; Resistance: 13R7; Tolerance: 1%; Power: 250mW
footprint RES SMD 1206
pins: 1, 2

## RES 1206 13R 1%
designator C?, comment 13R
13R 1% 250mW 1206 Thick Film Resistor; Manufacturer: FOJAN; Manufacturer Part Number: FRC1206F13R0TS; Voltage Rating: 200V; Supplier: LCSC; Supplier Part Number: C2933596; Resistance: 13R; Tolerance: 1%; Power: 250mW
footprint RES SMD 1206
pins: 1, 2

## RES 1206 13R 1%_1
designator C?, comment 13R
250mW 13R 200V Thick Film Resistor 1% 1206 Chip Resistor - Surface Mount RoHS; Manufacturer: FOJAN; Manufacturer Part Number: FRQ1206F13R0TS; Supplier: LCSC; Supplier Part Number: C51048304; Resistance: 13R; Tolerance: 1%; Voltage Rating: 200V; Power: 250mW
footprint RES SMD 1206
pins: 1, 2

## RES 1206 13R 5%
designator C?, comment 13R
13R 5% 250mW 1206 Thick Film Resistor; Manufacturer: FOJAN; Manufacturer Part Number: FRC1206J130 TS; Voltage Rating: 200V; Supplier: LCSC; Supplier Part Number: C2974056; Resistance: 13R; Tolerance: 5%; Power: 250mW
footprint RES SMD 1206
pins: 1, 2

## RES 1206 13R 5%_1
designator C?, comment 13R
13R 5% 250mW 1206 Thick Film Resistor; Manufacturer: FOJAN; Manufacturer Part Number: FRC1206J130TSD; Voltage Rating: 200V; Supplier: LCSC; Supplier Part Number: C2930348; Resistance: 13R; Tolerance: 5%; Power: 250mW
footprint RES SMD 1206
pins: 1, 2

## RES 1206 14k7 1%
designator C?, comment 14k7
14.7kR 1% 250mW 1206 Thick Film Resistor; Manufacturer: FOJAN; Manufacturer Part Number: FRC1206F1472TS; Voltage Rating: 200V; Supplier: LCSC; Supplier Part Number: C2974043; Resistance: 14k7; Tolerance: 1%; Power: 250mW
footprint RES SMD 1206
pins: 1, 2

## RES 1206 14k 1%
designator C?, comment 14k
14kR 1% 250mW 1206 Thick Film Resistor; Manufacturer: FOJAN; Manufacturer Part Number: FRC1206F1402TS; Voltage Rating: 200V; Supplier: LCSC; Supplier Part Number: C3013241; Resistance: 14k; Tolerance: 1%; Power: 250mW
footprint RES SMD 1206
pins: 1, 2

## RES 1206 14mR 5%
designator C?, comment 14mR
250mW 14mR Thick Film Resistor 5% 1206 Chip Resistor - Surface Mount RoHS; Manufacturer: FOJAN; Manufacturer Part Number: FRL1206JR014TS; Supplier: LCSC; Supplier Part Number: C7467611; Resistance: 14mR; Tolerance: 5%; Power: 250mW
footprint RES SMD 1206
pins: 1, 2

## RES 1206 14R3 1%
designator C?, comment 14R3
250mW 14.3R 200V Thick Film Resistor 100ppm/â„ƒ 1% 1206 Chip Resistor - Surface Mount RoHS; Manufacturer: FOJAN; Manufacturer Part Number: FRC1206F14R3TS; Supplier: LCSC; Supplier Part Number: C22375128; Resistance: 14R3; Tolerance: 1%; Voltage Rating: 200V; Power: 250mW
footprint RES SMD 1206
pins: 1, 2

## RES 1206 14R7 1%
designator C?, comment 14R7
14.7R 1% 250mW 1206 Thick Film Resistor; Manufacturer: FOJAN; Manufacturer Part Number: FRC1206F14R7TS; Voltage Rating: 200V; Supplier: LCSC; Supplier Part Number: C5126078; Resistance: 14R7; Tolerance: 1%; Power: 250mW
footprint RES SMD 1206
pins: 1, 2

## RES 1206 15k4 1%
designator C?, comment 15k4
15.4kR 1% 250mW 1206 Thick Film Resistor; Manufacturer: FOJAN; Manufacturer Part Number: FRC1206F1542TS; Voltage Rating: 200V; Supplier: LCSC; Supplier Part Number: C2974044; Resistance: 15k4; Tolerance: 1%; Power: 250mW
footprint RES SMD 1206
pins: 1, 2

## RES 1206 15k8 1%
designator C?, comment 15k8
15.8kR 1% 250mW 1206 Thick Film Resistor; Manufacturer: FOJAN; Manufacturer Part Number: FRC1206F1582TS; Voltage Rating: 200V; Supplier: LCSC; Supplier Part Number: C2999514; Resistance: 15k8; Tolerance: 1%; Power: 250mW
footprint RES SMD 1206
pins: 1, 2

## RES 1206 15k 1%
designator C?, comment 15k
15kR 1% 250mW 1206 Thick Film Resistor; Manufacturer: FOJAN; Manufacturer Part Number: FRC1206F1502TS; Voltage Rating: 200V; Supplier: LCSC; Supplier Part Number: C2930338; Resistance: 15k; Tolerance: 1%; Power: 250mW
footprint RES SMD 1206
pins: 1, 2

## RES 1206 15k 5%
designator C?, comment 15k
15kR 5% 250mW 1206 Thick Film Resistor; Manufacturer: FOJAN; Manufacturer Part Number: FRC1206J153 TS; Voltage Rating: 200V; Supplier: LCSC; Supplier Part Number: C2907433; Resistance: 15k; Tolerance: 5%; Power: 250mW
footprint RES SMD 1206
pins: 1, 2

## RES 1206 15k 5%_1
designator C?, comment 15k
15kR 5% 250mW 1206 Thick Film Resistor AEC-Q200; Manufacturer: FOJAN; Manufacturer Part Number: FRQ1206J153 TS; Voltage Rating: 200V; Supplier: LCSC; Supplier Part Number: C5713463; Resistance: 15k; Tolerance: 5%; Power: 250mW
footprint RES SMD 1206
pins: 1, 2

## RES 1206 15mR 1%
designator C?, comment 15mR
250mW 15mR Thick Film Resistor 1% 1206 Chip Resistor - Surface Mount RoHS; Manufacturer: FOJAN; Manufacturer Part Number: FRL1206FR015TS; Supplier: LCSC; Supplier Part Number: C7467657; Resistance: 15mR; Tolerance: 1%; Power: 250mW
footprint RES SMD 1206
pins: 1, 2

## RES 1206 15MR 1%_1
designator C?, comment 15MR
15MR 1% 250mW 1206 Thick Film Resistor; Manufacturer: FOJAN; Manufacturer Part Number: FRG1206F1505TS; Voltage Rating: 200V; Supplier: LCSC; Supplier Part Number: C3013340; Resistance: 15MR; Tolerance: 1%; Power: 250mW
footprint RES SMD 1206
pins: 1, 2

## RES 1206 15mR 5%
designator C?, comment 15mR
250mW 15mR Thick Film Resistor 5% 1206 Chip Resistor - Surface Mount RoHS; Manufacturer: FOJAN; Manufacturer Part Number: FRL1206JR015TS; Supplier: LCSC; Supplier Part Number: C7467547; Resistance: 15mR; Tolerance: 5%; Power: 250mW
footprint RES SMD 1206
pins: 1, 2

## RES 1206 15MR 5%_1
designator C?, comment 15MR
15MR 5% 250mW 1206 Thick Film Resistor; Manufacturer: FOJAN; Manufacturer Part Number: FRG1206J156TS; Voltage Rating: 200V; Supplier: LCSC; Supplier Part Number: C3000649; Resistance: 15MR; Tolerance: 5%; Power: 250mW
footprint RES SMD 1206
pins: 1, 2

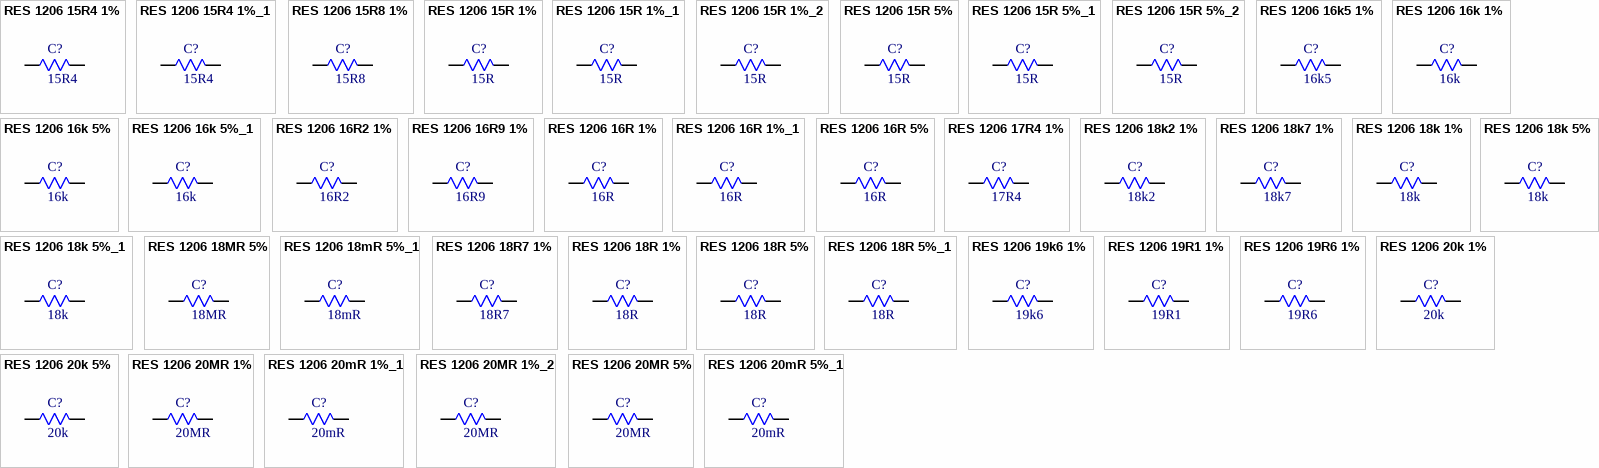
[diagram p67: symbols RES 1206 15R4 1% to RES 1206 20mR 5%_1]

## RES 1206 15R4 1%
designator C?, comment 15R4
15.4R 1% 500mW 1206 Thick Film Resistor; Manufacturer: FOJAN; Manufacturer Part Number: FRP1206F15R4TSN; Voltage Rating: 200V; Supplier: LCSC; Supplier Part Number: C3013373; Resistance: 15R4; Tolerance: 1%; Power: 500mW
footprint RES SMD 1206
pins: 1, 2

## RES 1206 15R4 1%_1
designator C?, comment 15R4
15.4R 1% 250mW 1206 Thick Film Resistor; Manufacturer: FOJAN; Manufacturer Part Number: FRC1206F15R4TS; Voltage Rating: 200V; Supplier: LCSC; Supplier Part Number: C5126137; Resistance: 15R4; Tolerance: 1%; Power: 250mW
footprint RES SMD 1206
pins: 1, 2

## RES 1206 15R8 1%
designator C?, comment 15R8
15.8R 1% 250mW 1206 Thick Film Resistor; Manufacturer: FOJAN; Manufacturer Part Number: FRC1206F15R8TS; Voltage Rating: 200V; Supplier: LCSC; Supplier Part Number: C3013243; Resistance: 15R8; Tolerance: 1%; Power: 250mW
footprint RES SMD 1206
pins: 1, 2

## RES 1206 15R 1%
designator C?, comment 15R
15R 1% 500mW 1206 Thick Film Resistor; Manufacturer: FOJAN; Manufacturer Part Number: FRP1206F15R0TSN; Voltage Rating: 200V; Supplier: LCSC; Supplier Part Number: C2934388; Resistance: 15R; Tolerance: 1%; Power: 500mW
footprint RES SMD 1206
pins: 1, 2

## RES 1206 15R 1%_1
designator C?, comment 15R
15R 1% 250mW 1206 Thick Film Resistor; Manufacturer: FOJAN; Manufacturer Part Number: FRC1206F15R0TS; Voltage Rating: 200V; Supplier: LCSC; Supplier Part Number: C2933601; Resistance: 15R; Tolerance: 1%; Power: 250mW
footprint RES SMD 1206
pins: 1, 2

## RES 1206 15R 1%_2
designator C?, comment 15R
15R 250mW 200V Thick Film Resistor 1% 1206 Chip Resistor - Surface Mount RoHS; Manufacturer: FOJAN; Manufacturer Part Number: FRQ1206F15R0TS; Supplier: LCSC; Supplier Part Number: C51048303; Resistance: 15R; Tolerance: 1%; Voltage Rating: 200V; Power: 250mW
footprint RES SMD 1206
pins: 1, 2

## RES 1206 15R 5%
designator C?, comment 15R
15R 5% 250mW 1206 Thick Film Resistor; Manufacturer: FOJAN; Manufacturer Part Number: FRC1206J150 TS; Voltage Rating: 200V; Supplier: LCSC; Supplier Part Number: C2907434; Resistance: 15R; Tolerance: 5%; Power: 250mW
footprint RES SMD 1206
pins: 1, 2

## RES 1206 15R 5%_1
designator C?, comment 15R
15R 5% 250mW 1206 Thick Film Resistor; Manufacturer: FOJAN; Manufacturer Part Number: FRD1206J150 TS; Voltage Rating: 200V; Supplier: LCSC; Supplier Part Number: C2934198; Resistance: 15R; Tolerance: 5%; Power: 250mW
footprint RES SMD 1206
pins: 1, 2

## RES 1206 15R 5%_2
designator C?, comment 15R
15R 500mW Thick Film Resistor 200ppm/â„ƒ 5% 1206 Chip Resistor - Surface Mount RoHS; Manufacturer: FOJAN; Manufacturer Part Number: FRP1206J150 TS; Supplier: LCSC; Supplier Part Number: C7468098; Resistance: 15R; Tolerance: 5%; Power: 500mW
footprint RES SMD 1206
pins: 1, 2

## RES 1206 16k5 1%
designator C?, comment 16k5
16.5kR 1% 250mW 1206 Thick Film Resistor; Manufacturer: FOJAN; Manufacturer Part Number: FRC1206F1652TS; Voltage Rating: 200V; Supplier: LCSC; Supplier Part Number: C2933607; Resistance: 16k5; Tolerance: 1%; Power: 250mW
footprint RES SMD 1206
pins: 1, 2

## RES 1206 16k 1%
designator C?, comment 16k
16kR 1% 250mW 1206 Thick Film Resistor; Manufacturer: FOJAN; Manufacturer Part Number: FRC1206F1602TS; Voltage Rating: 200V; Supplier: LCSC; Supplier Part Number: C2933604; Resistance: 16k; Tolerance: 1%; Power: 250mW
footprint RES SMD 1206
pins: 1, 2

## RES 1206 16k 5%
designator C?, comment 16k
16kR 5% 250mW 1206 Thick Film Resistor AEC-Q200; Manufacturer: FOJAN; Manufacturer Part Number: FRQ1206J163 TS; Voltage Rating: 200V; Supplier: LCSC; Supplier Part Number: C5713464; Resistance: 16k; Tolerance: 5%; Power: 250mW
footprint RES SMD 1206
pins: 1, 2

## RES 1206 16k 5%_1
designator C?, comment 16k
16kR 5% 250mW 1206 Thick Film Resistor; Manufacturer: FOJAN; Manufacturer Part Number: FRC1206J163 TS; Voltage Rating: 200V; Supplier: LCSC; Supplier Part Number: C2933782; Resistance: 16k; Tolerance: 5%; Power: 250mW
footprint RES SMD 1206
pins: 1, 2

## RES 1206 16R2 1%
designator C?, comment 16R2
16.2R 1% 250mW 1206 Thick Film Resistor; Manufacturer: FOJAN; Manufacturer Part Number: FRC1206F16R2TS; Voltage Rating: 200V; Supplier: LCSC; Supplier Part Number: C42372174; Resistance: 16R2; Tolerance: 1%; Power: 250mW
footprint RES SMD 1206
pins: 1, 2

## RES 1206 16R9 1%
designator C?, comment 16R9
16.9R 1% 250mW 1206 Thick Film Resistor; Manufacturer: FOJAN; Manufacturer Part Number: FRC1206F16R9TS; Voltage Rating: 200V; Supplier: LCSC; Supplier Part Number: C2933611; Resistance: 16R9; Tolerance: 1%; Power: 250mW
footprint RES SMD 1206
pins: 1, 2

## RES 1206 16R 1%
designator C?, comment 16R
16R 1% 250mW 1206 Thick Film Resistor; Manufacturer: FOJAN; Manufacturer Part Number: FRC1206F16R0TS; Voltage Rating: 200V; Supplier: LCSC; Supplier Part Number: C2933610; Resistance: 16R; Tolerance: 1%; Power: 250mW
footprint RES SMD 1206
pins: 1, 2

## RES 1206 16R 1%_1
designator C?, comment 16R
16R 250mW 200V Thick Film Resistor 1% 1206 Chip Resistor - Surface Mount RoHS; Manufacturer: FOJAN; Manufacturer Part Number: FRQ1206F16R0TS; Supplier: LCSC; Supplier Part Number: C51048302; Resistance: 16R; Tolerance: 1%; Voltage Rating: 200V; Power: 250mW
footprint RES SMD 1206
pins: 1, 2

## RES 1206 16R 5%
designator C?, comment 16R
16R 5% 250mW 1206 Thick Film Resistor; Manufacturer: FOJAN; Manufacturer Part Number: FRC1206J160 TS; Voltage Rating: 200V; Supplier: LCSC; Supplier Part Number: C3013267; Resistance: 16R; Tolerance: 5%; Power: 250mW
footprint RES SMD 1206
pins: 1, 2

## RES 1206 17R4 1%
designator C?, comment 17R4
17.4R 1% 250mW 1206 Thick Film Resistor; Manufacturer: FOJAN; Manufacturer Part Number: FRC1206F17R4TS; Voltage Rating: 200V; Supplier: LCSC; Supplier Part Number: C2933612; Resistance: 17R4; Tolerance: 1%; Power: 250mW
footprint RES SMD 1206
pins: 1, 2

## RES 1206 18k2 1%
designator C?, comment 18k2
18.2kR 1% 250mW 1206 Thick Film Resistor; Manufacturer: FOJAN; Manufacturer Part Number: FRC1206F1822TS; Voltage Rating: 200V; Supplier: LCSC; Supplier Part Number: C3013244; Resistance: 18k2; Tolerance: 1%; Power: 250mW
footprint RES SMD 1206
pins: 1, 2

## RES 1206 18k7 1%
designator C?, comment 18k7
18.7kR 1% 250mW 1206 Thick Film Resistor; Manufacturer: FOJAN; Manufacturer Part Number: FRC1206F1872TS; Voltage Rating: 200V; Supplier: LCSC; Supplier Part Number: C3000743; Resistance: 18k7; Tolerance: 1%; Power: 250mW
footprint RES SMD 1206
pins: 1, 2

## RES 1206 18k 1%
designator C?, comment 18k
18kR 1% 250mW 1206 Thick Film Resistor; Manufacturer: FOJAN; Manufacturer Part Number: FRC1206F1802TS; Voltage Rating: 200V; Supplier: LCSC; Supplier Part Number: C2933614; Resistance: 18k; Tolerance: 1%; Power: 250mW
footprint RES SMD 1206
pins: 1, 2

## RES 1206 18k 5%
designator C?, comment 18k
18kR 5% 250mW 1206 Thick Film Resistor; Manufacturer: FOJAN; Manufacturer Part Number: FRC1206J183 TS; Voltage Rating: 200V; Supplier: LCSC; Supplier Part Number: C2907438; Resistance: 18k; Tolerance: 5%; Power: 250mW
footprint RES SMD 1206
pins: 1, 2

## RES 1206 18k 5%_1
designator C?, comment 18k
18kR 5% 250mW 1206 Thick Film Resistor AEC-Q200; Manufacturer: FOJAN; Manufacturer Part Number: FRQ1206J183 TS; Voltage Rating: 200V; Supplier: LCSC; Supplier Part Number: C5713466; Resistance: 18k; Tolerance: 5%; Power: 250mW
footprint RES SMD 1206
pins: 1, 2

## RES 1206 18MR 5%
designator C?, comment 18MR
18MR 5% 250mW 1206 Thick Film Resistor; Manufacturer: FOJAN; Manufacturer Part Number: FRG1206J186TS; Voltage Rating: 200V; Supplier: LCSC; Supplier Part Number: C3000779; Resistance: 18MR; Tolerance: 5%; Power: 250mW
footprint RES SMD 1206
pins: 1, 2

## RES 1206 18mR 5%_1
designator C?, comment 18mR
250mW 18mR Thick Film Resistor 5% 1206 Chip Resistor - Surface Mount RoHS; Manufacturer: FOJAN; Manufacturer Part Number: FRL1206JR018TS; Supplier: LCSC; Supplier Part Number: C7467587; Resistance: 18mR; Tolerance: 5%; Power: 250mW
footprint RES SMD 1206
pins: 1, 2

## RES 1206 18R7 1%
designator C?, comment 18R7
18.7R 1% 250mW 1206 Thick Film Resistor; Manufacturer: FOJAN; Manufacturer Part Number: FRC1206F18R7TS; Voltage Rating: 200V; Supplier: LCSC; Supplier Part Number: C2933618; Resistance: 18R7; Tolerance: 1%; Power: 250mW
footprint RES SMD 1206
pins: 1, 2

## RES 1206 18R 1%
designator C?, comment 18R
18R 1% 250mW 1206 Thick Film Resistor; Manufacturer: FOJAN; Manufacturer Part Number: FRC1206F18R0TS; Voltage Rating: 200V; Supplier: LCSC; Supplier Part Number: C2933617; Resistance: 18R; Tolerance: 1%; Power: 250mW
footprint RES SMD 1206
pins: 1, 2

## RES 1206 18R 5%
designator C?, comment 18R
18R 5% 250mW 1206 Thick Film Resistor; Manufacturer: FOJAN; Manufacturer Part Number: FRC1206J180 TS; Voltage Rating: 200V; Supplier: LCSC; Supplier Part Number: C2907439; Resistance: 18R; Tolerance: 5%; Power: 250mW
footprint RES SMD 1206
pins: 1, 2

## RES 1206 18R 5%_1
designator C?, comment 18R
18R 5% 250mW 1206 Thick Film Resistor AEC-Q200; Manufacturer: FOJAN; Manufacturer Part Number: FRQ1206J180 TS; Voltage Rating: 200V; Supplier: LCSC; Supplier Part Number: C5713465; Resistance: 18R; Tolerance: 5%; Power: 250mW
footprint RES SMD 1206
pins: 1, 2

## RES 1206 19k6 1%
designator C?, comment 19k6
19.6kR 1% 250mW 1206 Thick Film Resistor; Manufacturer: FOJAN; Manufacturer Part Number: FRC1206F1962TS; Voltage Rating: 200V; Supplier: LCSC; Supplier Part Number: C2933620; Resistance: 19k6; Tolerance: 1%; Power: 250mW
footprint RES SMD 1206
pins: 1, 2

## RES 1206 19R1 1%
designator C?, comment 19R1
19.1R 1% 250mW 1206 Thick Film Resistor; Manufacturer: FOJAN; Manufacturer Part Number: FRC1206F19R1TS; Voltage Rating: 200V; Supplier: LCSC; Supplier Part Number: C2930411; Resistance: 19R1; Tolerance: 1%; Power: 250mW
footprint RES SMD 1206
pins: 1, 2

## RES 1206 19R6 1%
designator C?, comment 19R6
19.6R 1% 250mW 1206 Thick Film Resistor; Manufacturer: FOJAN; Manufacturer Part Number: FRC1206F19R6TS; Voltage Rating: 200V; Supplier: LCSC; Supplier Part Number: C2933621; Resistance: 19R6; Tolerance: 1%; Power: 250mW
footprint RES SMD 1206
pins: 1, 2

## RES 1206 20k 1%
designator C?, comment 20k
20kR 1% 250mW 1206 Thick Film Resistor; Manufacturer: FOJAN; Manufacturer Part Number: FRC1206F2002TS; Voltage Rating: 200V; Supplier: LCSC; Supplier Part Number: C2933636; Resistance: 20k; Tolerance: 1%; Power: 250mW
footprint RES SMD 1206
pins: 1, 2

## RES 1206 20k 5%
designator C?, comment 20k
20kR 5% 250mW 1206 Thick Film Resistor; Manufacturer: FOJAN; Manufacturer Part Number: FRC1206J203 TS; Voltage Rating: 200V; Supplier: LCSC; Supplier Part Number: C2907453; Resistance: 20k; Tolerance: 5%; Power: 250mW
footprint RES SMD 1206
pins: 1, 2

## RES 1206 20MR 1%
designator C?, comment 20MR
20MR 1% 250mW 1206 Thick Film Resistor; Manufacturer: FOJAN; Manufacturer Part Number: FRG1206F2005TS; Voltage Rating: 200V; Supplier: LCSC; Supplier Part Number: C3000606; Resistance: 20MR; Tolerance: 1%; Power: 250mW
footprint RES SMD 1206
pins: 1, 2

## RES 1206 20mR 1%_1
designator C?, comment 20mR
20mR 250mW Thick Film Resistor 1200ppm/â„ƒ 1% 1206 Chip Resistor - Surface Mount RoHS; Manufacturer: FOJAN; Manufacturer Part Number: FRL1206FR020TS; Supplier: LCSC; Supplier Part Number: C7467612; Resistance: 20mR; Tolerance: 1%; Power: 250mW
footprint RES SMD 1206
pins: 1, 2

## RES 1206 20MR 1%_2
designator C?, comment 20MR
20MR 1% 250mW 1206 Thick Film Resistor; Manufacturer: FOJAN; Manufacturer Part Number: FRC1206F2005TS; Voltage Rating: 200V; Supplier: LCSC; Supplier Part Number: C3013246; Resistance: 20MR; Tolerance: 1%; Power: 250mW
footprint RES SMD 1206
pins: 1, 2